# Altium schematic symbol library SIM900.SchLib: 1 symbol
Pins are listed as number, name and electrical type; pins without a type are passive.

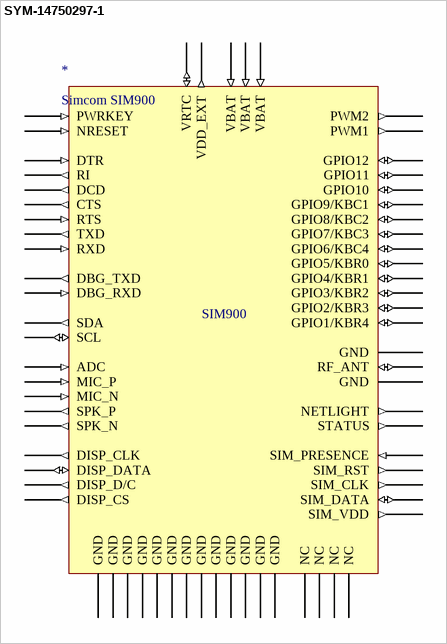
[diagram p0: symbol SYM-14750297-1]

## SYM-14750297-1
designator *, comment Simcom SIM900
pins: 1 PWRKEY (in), 2 NC, 3 DTR (in), 4 RI (out), 5 DCD (out), 6 NC, 7 CTS (out), 8 RTS (in), 9 TXD (out), 10 RXD (in), 11 DISP_CLK (out), 12 DISP_DATA (io), 13 DISP_D/C (out), 14 DISP_CS (out), 15 VDD_EXT (out), 16 NRESET (in), 17 GND, 18 GND, 19 MIC_P (in), 20 MIC_N (in), 21 SPK_P (out), 22 SPK_N (out), 23 NC, 24 NC, 25 ADC (in), 26 VRTC (io), 27 DBG_TXD (out), 28 DBG_RXD (in), 29 GND, 30 SIM_VDD (out), 31 SIM_DATA (io), 32 SIM_CLK (out), 33 SIM_RST (out), 34 SIM_PRESENCE (in), 35 PWM1 (out), 36 PWM2 (out), 37 SDA (out), 38 SCL (io), 39 GND, 40 GPIO1/KBR4 (io), 41 GPIO2/KBR3 (io), 42 GPIO3/KBR2 (io), 43 GPIO4/KBR1 (io), 44 GPIO5/KBR0 (io), 45 GND, 46 GND, 47 GPIO6/KBC4 (io), 48 GPIO7/KBC3 (io), 49 GPIO8/KBC2 (io), 50 GPIO9/KBC1 (io), 51 GPIO10 (io), 52 NETLIGHT (out), 53 GND, 54 GND, 55 VBAT (in), 56 VBAT (in), 57 VBAT (in), 58 GND, 59 GND, 60 RF_ANT (io), 61 GND, 62 GND, 63 GND, 64 GND, 65 GND, 66 STATUS (out), 67 GPIO11 (io), 68 GPIO12 (io)
text: SIM900